# EAGLE library part ESP32S3-DEVKITC1 (library mainboard-v4aW-jlcpcb)
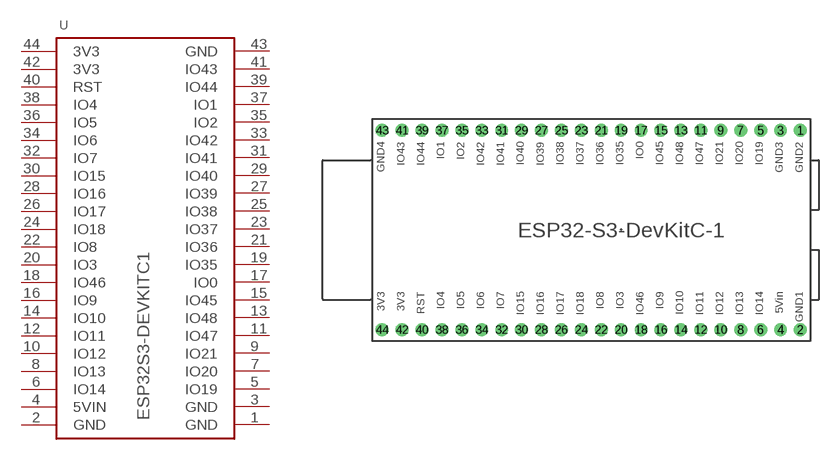
[diagram p8: symbol with the pads of ESP32S3-DEVKITC1; footprint ESP32S3-DEVKITC1]

Designator prefix -

## ESP32S3-DEVKITC1  [ESP32S3-DEVKITC1]
1  GND  pwr
2  GND  pwr
3  GND  pwr
4  5VIN  pwr
5  IO19
6  IO14
7  IO20
8  IO13
9  IO21
10  IO12
11  IO47
12  IO11
13  IO48
14  IO10
15  IO45
16  IO9
17  IO0
18  IO46
19  IO35
20  IO3
21  IO36
22  IO8
23  IO37
24  IO18
25  IO38
26  IO17
27  IO39
28  IO16
29  IO40
30  IO15
31  IO41
32  IO7
33  IO42
34  IO6
35  IO2
36  IO5
37  IO1
38  IO4
39  IO44
40  RST
41  IO43
42  3V3  pwr
43  GND  pwr
44  3V3  pwr

## Footprint ESP32S3-DEVKITC1 (pad centres in mm)
drill 0.8 pad 1.64: 1 30.48,12.7; 2 30.48,-12.7; 3 27.94,12.7; 4 27.94,-12.7; 5 25.4,12.7; 6 25.4,-12.7; 7 22.86,12.7; 8 22.86,-12.7; 9 20.32,12.7; 10 20.32,-12.7; 11 17.78,12.7; 12 17.78,-12.7; 13 15.24,12.7; 14 15.24,-12.7; 15 12.7,12.7; 16 12.7,-12.7; 17 10.16,12.7; 18 10.16,-12.7; 19 7.62,12.7; 20 7.62,-12.7; 21 5.08,12.7; 22 5.08,-12.7; 23 2.54,12.7; 24 2.54,-12.7; 25 0,12.7; 26 0,-12.7; 27 -2.54,12.7; 28 -2.54,-12.7; 29 -5.08,12.7; 30 -5.08,-12.7; 31 -7.62,12.7; 32 -7.62,-12.7; 33 -10.16,12.7; 34 -10.16,-12.7; 35 -12.7,12.7; 36 -12.7,-12.7; 37 -15.24,12.7; 38 -15.24,-12.7; 39 -17.78,12.7; 40 -17.78,-12.7; 41 -20.32,12.7; 42 -20.32,-12.7; 43 -22.86,12.7; 44 -22.86,-12.7